# Altium schematic symbol library SN74LVC1G04DSF2_sch.SchLib: 2 symbols
Pins are listed as number, name and electrical type; pins without a type are passive.

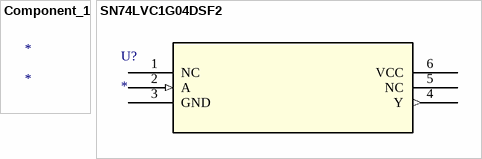
[diagram p0: symbols Component_1 to SN74LVC1G04DSF2]

## Component_1
designator *

## SN74LVC1G04DSF2
designator U?
No Description Available; Mfr_Name: Texas Instruments; RefDes: RefDes; Type: Type
footprint DSF6
pins: 1 NC, 2 A (in), 3 GND (power), 4 Y (out), 5 NC, 6 VCC (power)